# Altium schematic symbol library SamacSys.SchLib: 2 symbols
Pins are listed as number, name and electrical type; pins without a type are passive.

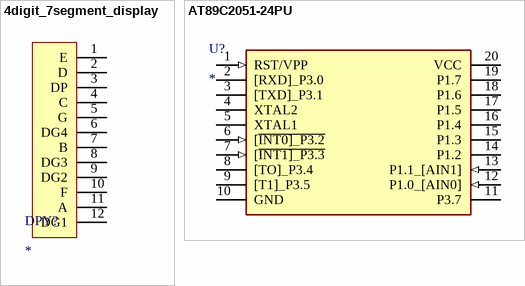
[diagram p0: symbols 4digit_7segment_display to AT89C2051-24PU]

## 4digit_7segment_display
designator DPY?
pins: 1 E, 2 D, 3 DP, 4 C, 5 G, 6 DG4, 7 B, 8 DG3, 9 DG2, 10 F, 11 A, 12 DG1

## AT89C2051-24PU
designator U?
Integrated Circuit; Manufacturer_Name: Microchip; Manufacturer_Part_Number: AT89C2051-24PU; Datasheet Link: https://componentsearchengine.com/Datasheets/1/AT89C2051-24PU.pdf; Height: 5.334mm; Mouser Part Number: 556-A89C2051-24PU; Mouser Price/Stock: https://www.mouser.com/Search/Refine.aspx?Keyword=556-A89C2051-24PU
footprint DIP794W56P254L2591H533Q20N
pins: 1 RST/VPP (in), 2 [RXD]_P3.0, 3 [TXD]_P3.1, 4 XTAL2, 5 XTAL1, 6 [~{INT0]_P3.2} (in), 7 [~{INT1]_P3.3} (in), 8 [TO]_P3.4, 9 [T1]_P3.5, 10 GND (power), 11 P3.7, 12 P1.0_[AIN0] (in), 13 P1.1_[AIN1] (in), 14 P1.2, 15 P1.3, 16 P1.4, 17 P1.5, 18 P1.6, 19 P1.7, 20 VCC (power)